# Altium integrated library RES Networks.IntLib: 12 symbols
Pins are listed as number, name and electrical type; pins without a type are passive.

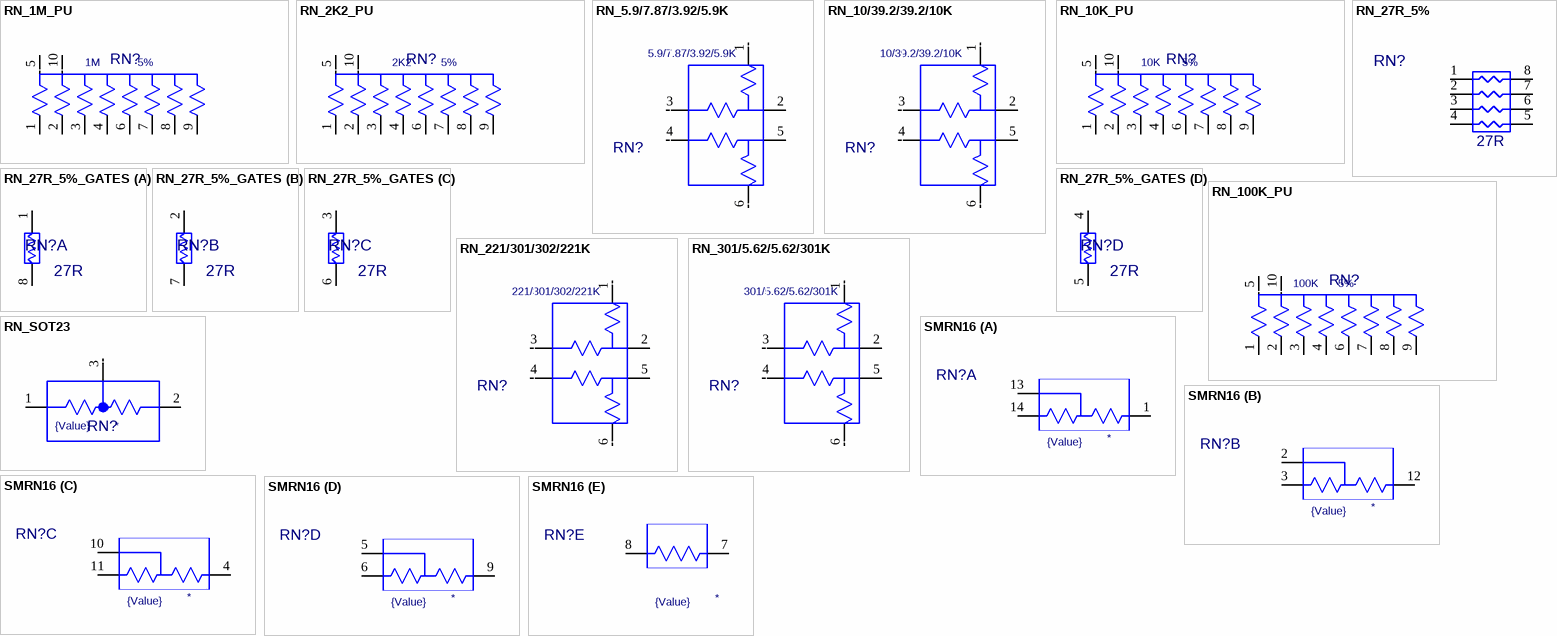
[diagram p0: symbols RN_1M_PU to SMRN16]

## RN_1M_PU
designator RN?, comment value 1M  Tolerance: 5%  (hidden comment: 48692-0069)
Resistor Network, 1Meg; ECAD_Revision: 1; Librarian: US; PartNumber: 48692-0069; Item: *
footprint SMRN10P
pins: 1, 2, 3, 4, 5, 6, 7, 8, 9, 10

## RN_2K2_PU
designator RN?, comment value 2K2  Tolerance: 5%  (hidden comment: 48692-0051)
Resistor Network, 2.2K; ECAD_Revision: 1; Librarian: US; PartNumber: 48692-0051; Item: *
footprint SMRN10P
pins: 1, 2, 3, 4, 5, 6, 7, 8, 9, 10

## RN_5.9/7.87/3.92/5.9K
designator RN?, comment value 5.9/7.87/3.92/5.9K  (hidden comment: 23256-0151)
Resistor Network, 5.9/7.87/3.92/5.9K; ECAD_Revision: 1; Librarian: US; PartNumber: 23256-0151; Item: *; Tolerance: *
footprint RN5
pins: 1, 2, 3, 4, 5, 6

## RN_10/39.2/39.2/10K
designator RN?, comment value 10/39.2/39.2/10K  (hidden comment: 23256-0060)
Resistor Network, 10/39.2/39.2/10K; ECAD_Revision: 1; Librarian: US; PartNumber: 23256-0060; Item: *; Tolerance: *
footprint RN5
pins: 1, 2, 3, 4, 5, 6

## RN_10K_PU
designator RN?, comment value 10K  Tolerance: 5%  (hidden comment: 48692-0036)
Resistor Network, 10K; ECAD_Revision: 1; Librarian: US; PartNumber: 48692-0036; Item: *
footprint SMRN10P
pins: 1, 2, 3, 4, 5, 6, 7, 8, 9, 10

## RN_27R_5%
designator RN?, comment value 27R  (hidden comment: AWT25-500062)
Resistor Network, 27 Ohm; Power Rating: 63mW/R, 250mW Total; Tolerance: 5%; ECAD_Revision: 2; Librarian: US; PartNumber: AWT25-500062; Item: *; HelpURL: K:\ACCELEDA\PDF Spec Files\Resistor/BCN16 4.pdf
footprint SMRN8
pins: 1, 2, 3, 4, 5, 6, 7, 8

## RN_27R_5%_GATES
designator RN?, comment value 27R  (hidden comment: AWT25-500062)
Resistor Network, 27 Ohms; Power Rating: 63mW/R, 250mW Total; Tolerance: 5%; ECAD_Revision: 2; PartNumber: AWT25-500062; Item: *; HelpURL: K:\ACCELEDA\PDF Spec Files\Resistor/BCN16 4.pdf
footprint SMRN8
part A pins: 1 A, 8
part B pins: 2, 7
part C pins: 3, 6 B
part D pins: 4, 5

## RN_100K_PU
designator RN?, comment value 100K  Tolerance: 5%  (hidden comment: 48692-0044)
Resistor Network, 100K; ECAD_Revision: 1; Librarian: US; PartNumber: 48692-0044; Item: *
footprint SMRN10P
pins: 1, 2, 3, 4, 5, 6, 7, 8, 9, 10

## RN_221/301/302/221K
designator RN?, comment value 221/301/302/221K  (hidden comment: 23256-0136)
Resistor Network, 221/301/302/221K; ECAD_Revision: 1; Librarian: US; PartNumber: 23256-0136; Item: *; Tolerance: *
footprint RN5
pins: 1 150, 2, 3, 4, 5, 6

## RN_301/5.62/5.62/301K
designator RN?, comment value 301/5.62/5.62/301K  (hidden comment: 23256-0011)
Resistor Network, 301/5.62/5.62/301K; ECAD_Revision: 1; Librarian: US; PartNumber: 23256-0011; Item: *; Tolerance: *
footprint RN5
pins: 1, 2, 3, 4, 5, 6

## RN_SOT23
designator RN?, comment value {Value}  (hidden comment: 60152-)
Resistor Network,; ECAD_Revision: 1; Librarian: US; PartNumber: 60152-; Item: *; Tolerance: *
footprint SOT23
pins: 1, 2, 3

## SMRN16
designator RN?, comment value {Value}  (hidden comment: TMP_US_Restior Network)
Resistor Network,; ECAD_Revision: 1; Librarian: US; PartNumber: TMP_US_Restior Network; Item: *; Tolerance: *
footprint SOIC14
part A pins: 1, 13, 14
part B pins: 2, 3, 12
part C pins: 4, 10, 11
part D pins: 5, 6, 9
part E pins: 7, 8